# EAGLE library part 6-PIN-JUMPER (library boscoverysat)
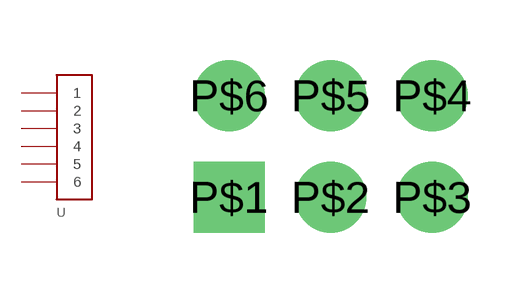
[diagram p3: symbol with the pads of 6-PIN-JUMPER; footprint 6-PIN-JUMPER]

Designator prefix -

## 6-PIN-JUMPER  [6-PIN-JUMPER]
P$1  1
P$2  2
P$3  3
P$4  4
P$5  5
P$6  6

## Footprint 6-PIN-JUMPER (pad centres in mm)
drill 0.254 pad 1.778 square: P$1 0,0
drill 0.254 pad 1.778: P$2 2.54,0; P$3 5.08,0; P$4 5.08,2.54; P$5 2.54,2.54; P$6 0,2.54